# Altium footprint library capacitor_murata_1210$.PcbLib: 1 footprints
Each footprint in its own frame and in the unit in brackets; x right, y up, seen from the top. Pads: shape width x height; smd on the part's side, far side on the other; paste and mask are expansions set on the pad; w line width, h text height; cw(c..) or ccw(c..) is an arc to the next point about the centre after c.
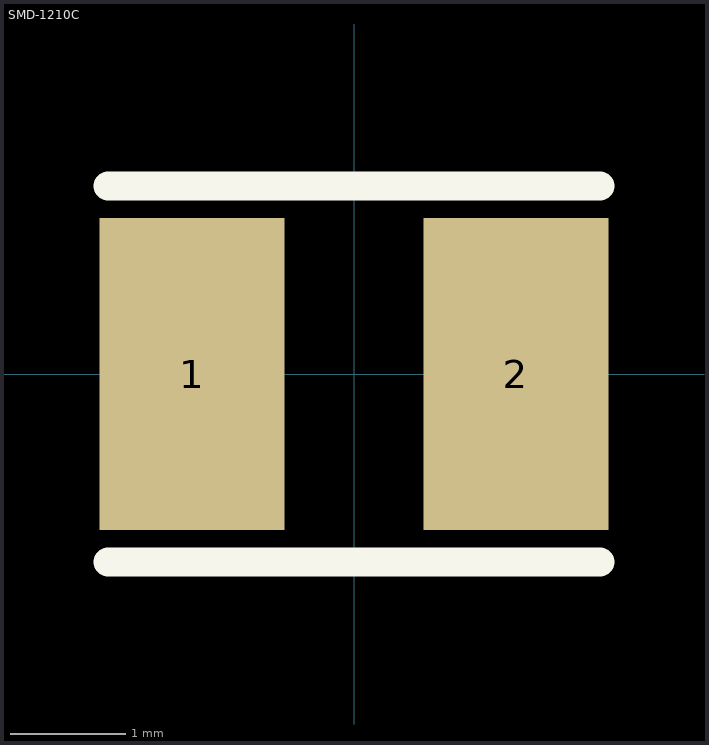
[diagram p0: the footprint, top view; thin cyan lines are the x and y axes]

## SMD-1210C [mm]
height 0.5
pads (2):
  rect 1.6x2.7 smd: 1(-1.4,0) 2(1.4,0)
Top Overlay:
  lines w0.254: -2.125,-1.625 2.125,-1.625 ; -2.125,1.625 2.125,1.625
3D body "User Library-1210(3225M) Cap.step": height 1.7, standoff 0, extent -2,-1.219 2,1.27